# Altium schematic symbol library Decoder Encoder.SchLib: 4 symbols
Pins are listed as number, name and electrical type; pins without a type are passive.

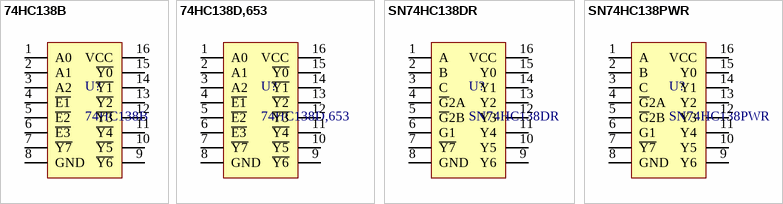
[diagram p0: symbols 74HC138B to SN74HC138PWR]

## 74HC138B
designator U?
制造商: FM(富满); 封装: SOP-16; 类别: 译码器/编码器; 子类别: 3/8译码器; 工作电压: 3V~5V; 元件数: 1; 每个元件位数: 3/8
footprint FM-SOP16 (FM(富满) 74HC595.)
pins: 1 A0, 2 A1, 3 A2, 4 ~{E1}, 5 ~{E2}, 6 ~{E3}, 7 ~{Y7}, 8 GND, 9 ~{Y6}, 10 ~{Y5}, 11 ~{Y4}, 12 ~{Y3}, 13 ~{Y2}, 14 ~{Y1}, 15 ~{Y0}, 16 VCC

## 74HC138D,653
designator U?
制造商: Nexperia(安世); 封装: SOIC-16; 类别: 译码器/编码器; 子类别: 3/8译码器; 工作电压: 2V~6V; 元件数: 1; 每个元件位数: 3/8
footprint 74HC138D,653
pins: 1 A0, 2 A1, 3 A2, 4 ~{E1}, 5 ~{E2}, 6 ~{E3}, 7 ~{Y7}, 8 GND, 9 ~{Y6}, 10 ~{Y5}, 11 ~{Y4}, 12 ~{Y3}, 13 ~{Y2}, 14 ~{Y1}, 15 ~{Y0}, 16 VCC

## SN74HC138DR
designator U?
制造商: TI(德州仪器); 封装: SOIC-16; 类别: 译码器/编码器; 子类别: 3/8译码器; 工作电压: 2V~6V; 元件数: 1; 每个元件位数: 3/8
footprint SN74HC138DR
pins: 1 A, 2 B, 3 C, 4 ~{G}2A, 5 ~{G}2B, 6 G1, 7 ~{Y7}, 8 GND, 9 Y6, 10 Y5, 11 Y4, 12 Y3, 13 Y2, 14 Y1, 15 Y0, 16 VCC

## SN74HC138PWR
designator U?
制造商: TI(德州仪器); 封装: TTSOP-16; 类别: 译码器/编码器; 子类别: 3/8译码器; 工作电压: 2V~6V; 元件数: 1; 每个元件位数: 3/8
footprint SN74HC138PWR (TI SN74HC138PWR 推荐焊盘)
pins: 1 A, 2 B, 3 C, 4 ~{G}2A, 5 ~{G}2B, 6 G1, 7 ~{Y7}, 8 GND, 9 Y6, 10 Y5, 11 Y4, 12 Y3, 13 Y2, 14 Y1, 15 Y0, 16 VCC